# EAGLE library part HDMI-KOBICONN-154-10428-E (library Pygmy)
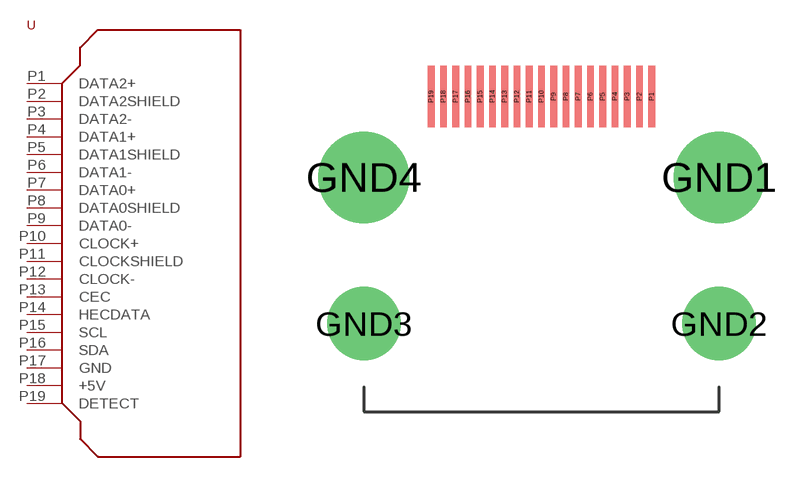
[diagram p90: symbol with the pads of HDMI-KOBICONN-154-10428-E; footprint HDMI-KOBICONN-154-10428-E]

Designator prefix -

## HDMI-KOBICONN-154-10428-E  [HDMI-KOBICONN-154-10428-E]
P1  DATA2+
P2  DATA2SHIELD
P3  DATA2-
P4  DATA1+
P5  DATA1SHIELD
P6  DATA1-
P7  DATA0+
P8  DATA0SHIELD
P9  DATA0-
P10  CLOCK+
P11  CLOCKSHIELD
P12  CLOCK-
P13  CEC
P14  HECDATA
P15  SCL
P16  SDA
P17  GND
P18  +5V
P19  DETECT

## Footprint HDMI-KOBICONN-154-10428-E (pad centres in mm)
drill 2.7: GND1 7.25,9.55; GND4 -7.25,9.55
drill 2: GND2 7.25,3.59; GND3 -7.25,3.59
smd 0.28 x 2.5: P1 4.5,12.86; P2 4,12.86; P3 3.5,12.86; P4 3,12.86; P5 2.5,12.86; P6 2,12.86; P7 1.5,12.86; P8 1,12.86; P9 0.5,12.86; P10 0,12.86; P11 -0.5,12.86; P12 -1,12.86; P13 -1.5,12.86; P14 -2,12.86; P15 -2.5,12.86; P16 -3,12.86; P17 -3.5,12.86; P18 -4,12.86; P19 -4.5,12.86